# EAGLE library part R-EU-4 (library ts_keyboards)
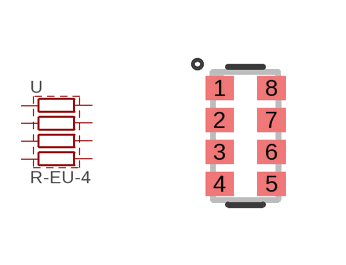
[diagram p7: symbol with the pads of R0603X4; footprint R0603X4]

Designator prefix -

## R-EU-4  [R0603X4]
1  1  pas
2  2  pas
3  3  pas
4  4  pas
5  5  pas
6  6  pas
7  7  pas
8  8  pas

## Footprint R0603X4 (pad centres in mm)
smd 0.7 x 0.6: 1 -0.65,1.2; 2 -0.65,0.4; 3 -0.65,-0.4; 4 -0.65,-1.2; 5 0.65,-1.2; 6 0.65,-0.4; 7 0.65,0.4; 8 0.65,1.2